# EAGLE library part MS580305BA01-00 (library Sensors)
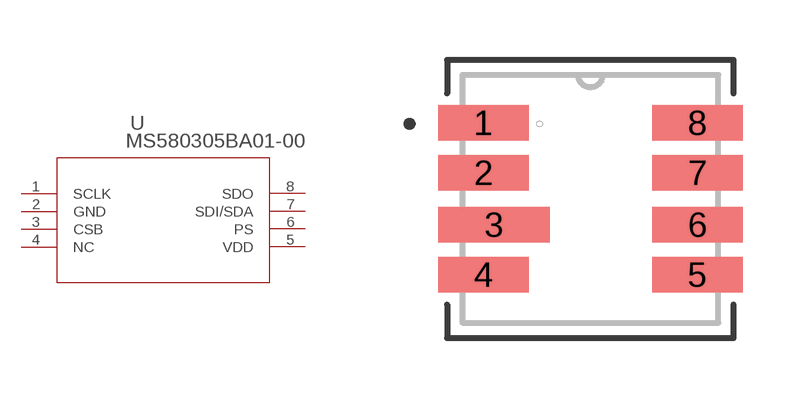
[diagram p7: symbol with the pads of SON8_MS5803; footprint SON8_MS5803]

Designator prefix U

## MS580305BA01-00 (BUILT_BY: EMA_UL_Team; CATEGORY: Board Level Pressure Sensors; COPYRIGHT: Copyright (C) 2016 Accelerated Designs. All rights reserved; DESCRIPTION: MS5803-05BA 5BAR WHITE GEL TUBE; MANUFACTURER_PART_NUMBER: MS580305BA01-00; OUTPUT-SPAN: 24 bit ADC; PACKAGE: Surface Mountable; PART_STATUS: active; PRODUCT_DESCRIPTION: MS5803-05BA 5BAR WHITE GEL TUBE; PRODUCT_TYPE: -; SENSOR_TYPE: Digital Pressure and Altimeter Sensor Modules; SERIES: MEAS MS5803; SUPPLY_VOLTAGE: 1.8  3.6; TE_PART_NUMBER: MS580305BA01-00; VENDOR: TE Connectivity)  [SON8_MS5803]
1  SCLK  in
2  GND  pas
3  CSB  in
4  NC  nc
5  VDD  pwr
6  PS  in
7  SDI/SDA  in
8  SDO  out

## Footprint SON8_MS5803 (pad centres in mm)
smd 2.261 x 0.889: 1 -2.675,1.9; 2 -2.675,0.65; 4 -2.675,-1.9; 5 2.675,-1.9; 6 2.675,-0.65; 7 2.675,0.65; 8 2.675,1.9
smd 2.794 x 0.889: 3 -2.408,-0.65